# EAGLE library part SLIDE_ON_ON (library rp_switch)
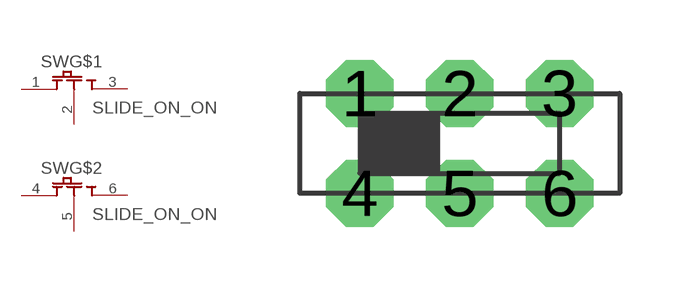
[diagram p0: symbol with the pads of SLIDE-3P-2; footprint SLIDE-3P-2]

Designator prefix SW; gates G$1=SLIDE1_ON_ON G$2=SLIDE1_ON_ON

## SLIDE_ON_ON  [SLIDE-3P-2]
1  G$1:P$1  pas
2  G$1:P$2  pas
3  G$1:P$3  pas
4  G$2:P$1  pas
5  G$2:P$2  pas
6  G$2:P$3  pas

## Footprint SLIDE-3P-2 (pad centres in mm)
drill 0.8 pad 1.676 octagon: 1 -2.5,0; 2 0,0; 3 2.5,0; 4 -2.5,-2.5; 5 0,-2.5; 6 2.5,-2.5